# Altium schematic symbol library USB连接器.SchLib: 2 symbols
Pins are listed as number, name and electrical type; pins without a type are passive.

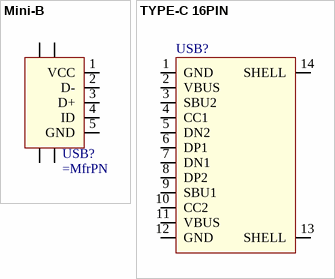
[diagram p0: symbols Mini-B to TYPE-C 16PIN]

## Mini-B
designator USB?
pins: 1 VCC, 2 D-, 3 D+, 4 ID, 5 GND, 6, 7, 8, 9

## TYPE-C 16PIN
designator USB?
pins: 1 GND, 2 VBUS, 3 SBU2, 4 CC1, 5 DN2, 6 DP1, 7 DN1, 8 DP2, 9 SBU1, 10 CC2, 11 VBUS, 12 GND, 13 SHELL, 14 SHELL